# EAGLE library part 1MX1_DRAM (library Amiga)
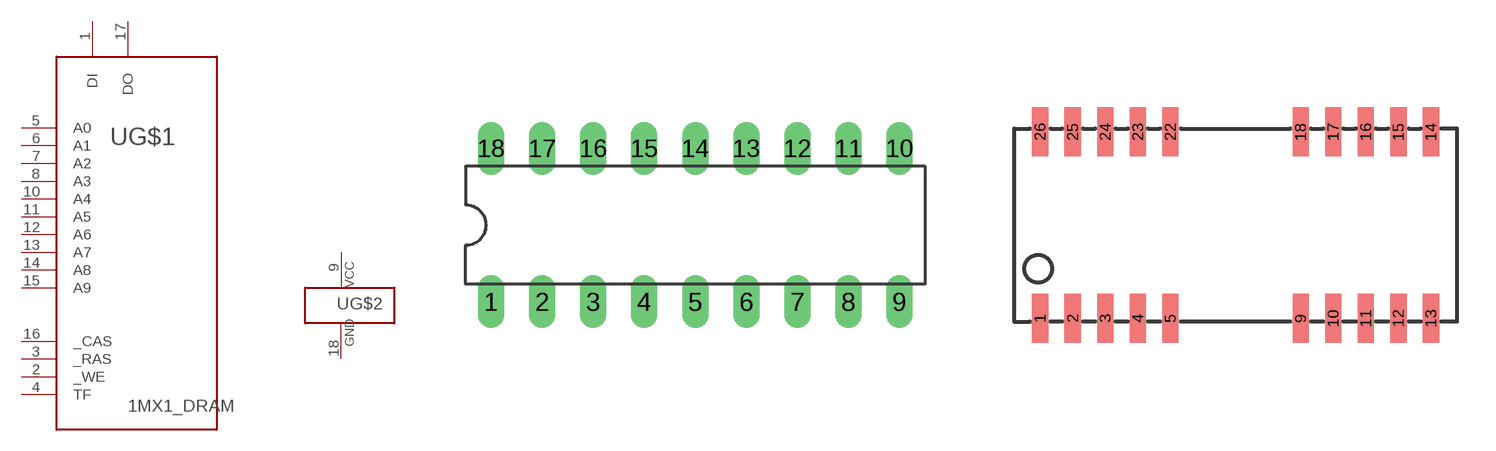
[diagram p49: symbol with the pads of DIL18; footprints DIL18, SOJ26-20]

Designator prefix -; gates G$1=1MX1_DRAM G$2=1VCC-1GND

## 1MX1_DRAMDIL  [DIL18]
1  G$1:DI  in
2  G$1:_WE  in
3  G$1:_RAS  in
4  G$1:TF  in
5  G$1:A0  in
6  G$1:A1  in
7  G$1:A2  in
8  G$1:A3  in
9  G$2:VCC1  pwr
10  G$1:A4  in
11  G$1:A5  in
12  G$1:A6  in
13  G$1:A7  in
14  G$1:A8  in
15  G$1:A9  in
16  G$1:_CAS  in
17  G$1:DO  in
18  G$2:GND1  pwr

## 1MX1_DRAMSOJ  [SOJ26-20]
1  G$1:DI  in
2  G$1:_WE  in
3  G$1:_RAS  in
4  G$1:TF  in
9  G$1:A0  in
10  G$1:A1  in
11  G$1:A2  in
12  G$1:A3  in
13  G$2:VCC1  pwr
14  G$1:A4  in
15  G$1:A5  in
16  G$1:A6  in
17  G$1:A7  in
18  G$1:A8  in
22  G$1:A9  in
24  G$1:_CAS  in
25  G$1:DO  in
26  G$2:GND1  pwr

## 1MX1_DRAMDIL-SCHRAEG  [DIL18-SCHRAEG]
Pads as for DIL18

## Footprint DIL18 (pad centres in mm)
Dual In Line Package
drill 0.813 long: 1 -10.16,-3.81; 2 -7.62,-3.81; 3 -5.08,-3.81; 4 -2.54,-3.81; 5 0,-3.81; 6 2.54,-3.81; 7 5.08,-3.81; 8 7.62,-3.81; 9 10.16,-3.81; 10 10.16,3.81; 11 7.62,3.81; 12 5.08,3.81; 13 2.54,3.81; 14 0,3.81; 15 -2.54,3.81; 16 -5.08,3.81; 17 -7.62,3.81; 18 -10.16,3.81

## Footprint SOJ26-20 (pad centres in mm)
Small Outline J-Bend
smd 0.635 x 1.905: 1 -7.62,-3.632; 2 -6.35,-3.632; 3 -5.08,-3.632; 4 -3.81,-3.632; 5 -2.54,-3.632; 9 2.54,-3.632; 10 3.81,-3.632; 11 5.08,-3.632; 12 6.35,-3.632; 13 7.62,-3.632; 14 7.62,3.632; 15 6.35,3.632; 16 5.08,3.632; 17 3.81,3.632; 18 2.54,3.632; 22 -2.54,3.632; 23 -3.81,3.632; 24 -5.08,3.632; 25 -6.35,3.632; 26 -7.62,3.632

## Footprint DIL18-SCHRAEG (pad centres in mm)
drill 0.813 square: 1 -10.16,-3.81
drill 0.813: 2 -7.62,-3.81; 3 -5.08,-3.81; 4 -2.54,-3.81; 5 0,-3.81; 6 2.54,-3.81; 7 5.08,-3.81; 8 7.62,-3.81; 9 10.16,-3.81; 10 10.16,3.81; 11 7.62,3.81; 12 5.08,3.81; 13 2.54,3.81; 14 0,3.81; 15 -2.54,3.81; 16 -5.08,3.81; 17 -7.62,3.81; 18 -10.16,3.81